# Altium schematic symbol library AMPLH7020S.SchLib: 1 symbol
Pins are listed as number, name and electrical type; pins without a type are passive.

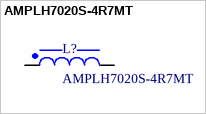
[diagram p0: symbol AMPLH7020S-4R7MT]

## AMPLH7020S-4R7MT
designator L?
FIXED IND 4.7UH 5.5A 45.6MOHM SM
footprint INDP7366X20N (Precision Wire Wound Inductor, 2-Leads, Body 7,30x6,60mm, IPC Medium Density)
pins: 1, 2